# EAGLE library part L2722 (library SquantorIC)
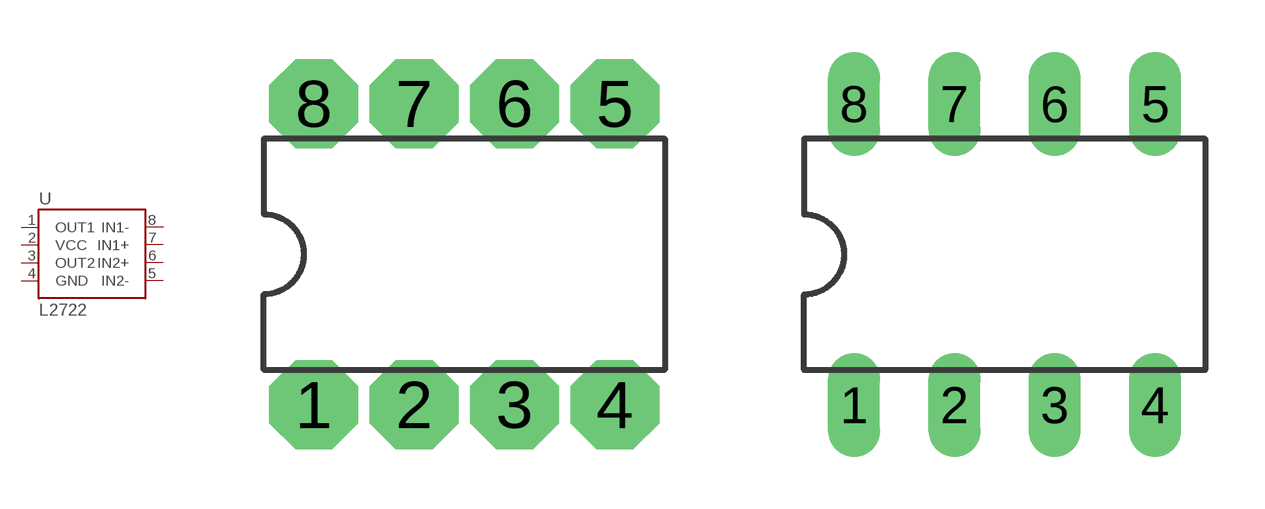
[diagram p9: symbol with the pads of DIL08_1.5MM; footprints DIL08_1.5MM, DIL08]

Designator prefix -

## L2722PDIP8_1.5MM  [DIL08_1.5MM]
1  OUT1
2  VCC  in
3  OUT2  in
4  GND  pwr
5  IN2-  in
6  IN2+  out
7  IN1+  pwr
8  IN1-

## L2722PDIP8_STD  [DIL08]
Pads as for DIL08_1.5MM

## L2722PDIP8_0.9MM  [DIL08_0.9MM_OCT]
Pads as for DIL08_1.5MM

## Footprint DIL08_1.5MM (pad centres in mm)
drill 1.5 octagon: 1 -3.81,-3.81; 2 -1.27,-3.81; 3 1.27,-3.81; 4 3.81,-3.81; 5 3.81,3.81; 6 1.27,3.81; 7 -1.27,3.81; 8 -3.81,3.81

## Footprint DIL08 (pad centres in mm)
Dual In Line Package
drill 0.813 long: 1 -3.81,-3.81; 2 -1.27,-3.81; 3 1.27,-3.81; 4 3.81,-3.81; 5 3.81,3.81; 6 1.27,3.81; 7 -1.27,3.81; 8 -3.81,3.81

## Footprint DIL08_0.9MM_OCT (pad centres in mm)
drill 0.8 pad 1.422 octagon: 1 -3.81,-3.81; 2 -1.27,-3.81; 3 1.27,-3.81; 4 3.81,-3.81; 5 3.81,3.81; 6 1.27,3.81; 7 -1.27,3.81; 8 -3.81,3.81